# EAGLE library part DRV8842 (library microLib)
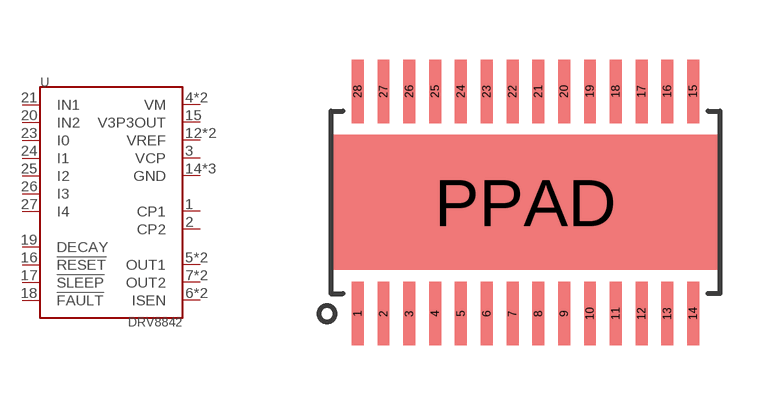
[diagram p5: symbol with the pads of PWP_28; footprint PWP_28]

Designator prefix -

## DRV8842  [PWP_28]
1  CP1
2  CP2
3  VCP  pas
4  VM  pwr
5  OUT1
6  ISEN
7  OUT2
8  OUT2
9  ISEN
10  OUT1
11  VM  pwr
12  VREF
13  VREF
14  GND  pwr
15  V3P3OUT  pwr
16  !RESET!
17  !SLEEP!
18  !FAULT!
19  DECAY
20  IN2
21  IN1
23  I0
24  I1
25  I2
26  I3
27  I4
28  GND  pwr
PPAD  GND  pwr

## Footprint PWP_28 (pad centres in mm)
smd 0.3 x 1.6: 1 -4.225,-2.8; 2 -3.575,-2.8; 3 -2.925,-2.8; 4 -2.275,-2.8; 5 -1.625,-2.8; 6 -0.975,-2.8; 7 -0.325,-2.8; 8 0.325,-2.8; 9 0.975,-2.8; 10 1.625,-2.8; 11 2.275,-2.8; 12 2.925,-2.8; 13 3.575,-2.8; 14 4.225,-2.8; 15 4.225,2.8; 16 3.575,2.8; 17 2.925,2.8; 18 2.275,2.8; 19 1.625,2.8; 20 0.975,2.8; 21 0.325,2.8; 22 -0.325,2.8; 23 -0.975,2.8; 24 -1.625,2.8; 25 -2.275,2.8; 26 -2.925,2.8; 27 -3.575,2.8; 28 -4.225,2.8
smd 9.7 x 3.4: PPAD 0,0